# EAGLE library part SSP4240220FJ33 (library F030NG)
DSP / SSP4240220FJ33
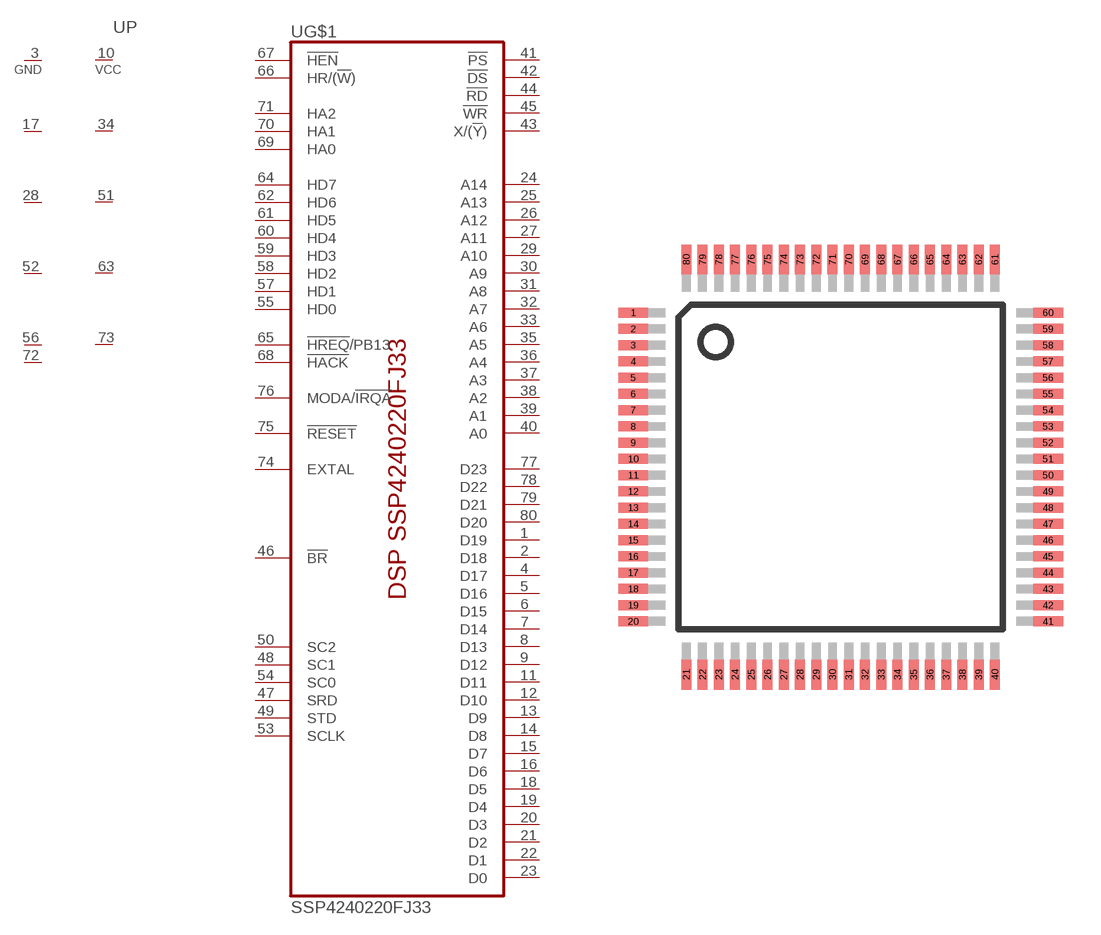
[diagram p34: symbol with the pads of QFP80; footprint QFP80]

Designator prefix U; gates P=5VCC_6GND G$1=SSP4240220FJ33

## SSP4240220FJ33-QFP80  [QFP80]
1  G$1:D19
2  G$1:D18
3  P:GND  pwr
4  G$1:D17
5  G$1:D16
6  G$1:D15
7  G$1:D14
8  G$1:D13
9  G$1:D12
10  P:VCC  pwr
11  G$1:D11
12  G$1:D10
13  G$1:D9
14  G$1:D8
15  G$1:D7
16  G$1:D6
17  P:GND  pwr
18  G$1:D5
19  G$1:D4
20  G$1:D3
21  G$1:D2
22  G$1:D1
23  G$1:D0
24  G$1:A14  out
25  G$1:A13  out
26  G$1:A12  out
27  G$1:A11  out
28  P:GND  pwr
29  G$1:A10  out
30  G$1:A9  out
31  G$1:A8  out
32  G$1:A7  out
33  G$1:A6  out
34  P:VCC  pwr
35  G$1:A5  out
36  G$1:A4  out
37  G$1:A3  out
38  G$1:A2  out
39  G$1:A1  out
40  G$1:A0  out
41  G$1:!PS  out
42  G$1:!DS  out
43  G$1:X/(!Y!)  out
44  G$1:!RD  out
45  G$1:!WR  out
46  G$1:!BR  in
47  G$1:SRD  in
48  G$1:SC1
49  G$1:STD  out
50  G$1:SC2
51  P:VCC  pwr
52  P:GND  pwr
53  G$1:SCLK
54  G$1:SC0
55  G$1:HD0
56  P:GND  pwr
57  G$1:HD1
58  G$1:HD2
59  G$1:HD3
60  G$1:HD4
61  G$1:HD5
62  G$1:HD6
63  P:VCC  pwr
64  G$1:HD7
65  G$1:!HREQ!/PB13
66  G$1:HR/(!W!)  in
67  G$1:!HEN  in
68  G$1:!HACK  in
69  G$1:HA0  in
70  G$1:HA1  in
71  G$1:HA2  in
72  P:GND  pwr
73  P:VCC  pwr
74  G$1:EXTAL  in
75  G$1:!RESET  in
76  G$1:MODA/!IRQA  in
77  G$1:D23
78  G$1:D22
79  G$1:D21
80  G$1:D20

## Footprint QFP80 (pad centres in mm)
80-Pin QFP (Case no. 841B) 9S12A256DGV1.pdf
smd 1.2 x 0.4: 1 -8.3,6.175; 2 -8.3,5.525; 3 -8.3,4.875; 4 -8.3,4.225; 5 -8.3,3.575; 6 -8.3,2.925; 7 -8.3,2.275; 8 -8.3,1.625; 9 -8.3,0.975; 10 -8.3,0.325; 11 -8.3,-0.325; 12 -8.3,-0.975; 13 -8.3,-1.625; 14 -8.3,-2.275; 15 -8.3,-2.925; 16 -8.3,-3.575; 17 -8.3,-4.225; 18 -8.3,-4.875; 19 -8.3,-5.525; 20 -8.3,-6.175; 41 8.3,-6.175; 42 8.3,-5.525; 43 8.3,-4.875; 44 8.3,-4.225; 45 8.3,-3.575; 46 8.3,-2.925; 47 8.3,-2.275; 48 8.3,-1.625; 49 8.3,-0.975; 50 8.3,-0.325; 51 8.3,0.325; 52 8.3,0.975; 53 8.3,1.625; 54 8.3,2.275; 55 8.3,2.925; 56 8.3,3.575; 57 8.3,4.225; 58 8.3,4.875; 59 8.3,5.525; 60 8.3,6.175
smd 0.4 x 1.2: 21 -6.175,-8.3; 22 -5.525,-8.3; 23 -4.875,-8.3; 24 -4.225,-8.3; 25 -3.575,-8.3; 26 -2.925,-8.3; 27 -2.275,-8.3; 28 -1.625,-8.3; 29 -0.975,-8.3; 30 -0.325,-8.3; 31 0.325,-8.3; 32 0.975,-8.3; 33 1.625,-8.3; 34 2.275,-8.3; 35 2.925,-8.3; 36 3.575,-8.3; 37 4.225,-8.3; 38 4.875,-8.3; 39 5.525,-8.3; 40 6.175,-8.3; 61 6.175,8.3; 62 5.525,8.3; 63 4.875,8.3; 64 4.225,8.3; 65 3.575,8.3; 66 2.925,8.3; 67 2.275,8.3; 68 1.625,8.3; 69 0.975,8.3; 70 0.325,8.3; 71 -0.325,8.3; 72 -0.975,8.3; 73 -1.625,8.3; 74 -2.275,8.3; 75 -2.925,8.3; 76 -3.575,8.3; 77 -4.225,8.3; 78 -4.875,8.3; 79 -5.525,8.3; 80 -6.175,8.3